# Altium schematic symbol library Logic.SCHLIB: 64 symbols
Pins are listed as number, name and electrical type; pins without a type are passive.

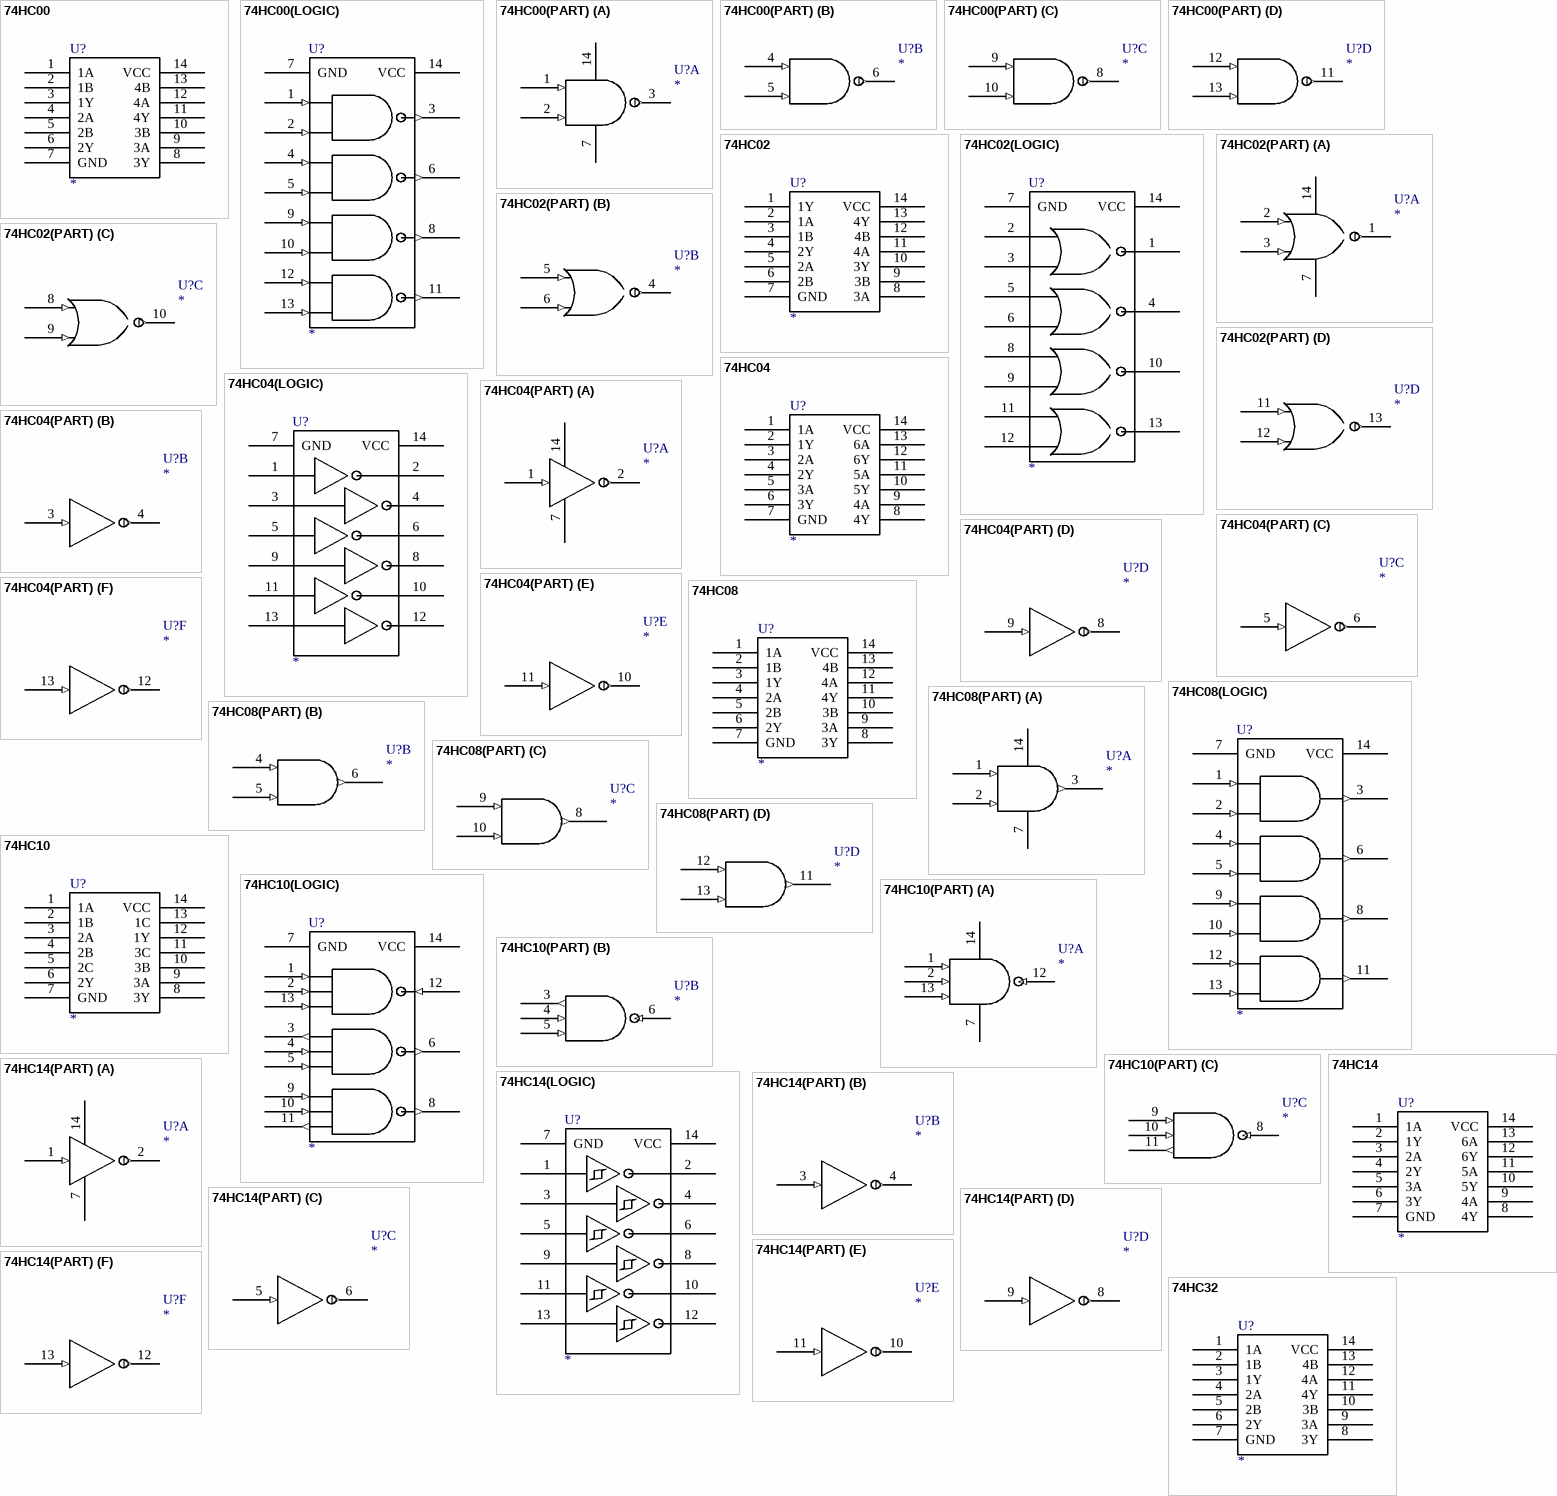
[diagram p0: symbols 74HC00 to 74HC32]

## 74HC00
designator U?
footprint SOP-14(3.9)
footprint DIP-14(300)
pins: 1 1A, 2 1B, 3 1Y, 4 2A, 5 2B, 6 2Y, 7 GND, 8 3Y, 9 3A, 10 3B, 11 4Y, 12 4A, 13 4B, 14 VCC

## 74HC00(LOGIC)
designator U?
footprint SOP-14(3.9)
footprint DIP-14(300)
pins: 1 1A (in), 2 1B (in), 3 1Y (out), 4 2A (in), 5 2B (in), 6 2Y (out), 7 GND, 8 3Y (out), 9 3A (in), 10 3B (in), 11 4Y (out), 12 4A (in), 13 4B (in), 14 VCC

## 74HC00(PART)
designator U?
footprint SOP-14(3.9)
footprint DIP-14(300)
part A pins: 1 A (in), 2 B (in), 3 Y (out), 7 GND, 14 VCC
part B pins: 4 A (in), 5 B (in), 6 Y (out)
part C pins: 8 Y (out), 9 A (in), 10 B (in)
part D pins: 11 Y (out), 12 A (in), 13 B (in)

## 74HC02
designator U?
footprint SOP-14(3.9)
footprint DIP-14(300)
pins: 1 1Y, 2 1A, 3 1B, 4 2Y, 5 2A, 6 2B, 7 GND, 8 3A, 9 3B, 10 3Y, 11 4A, 12 4B, 13 4Y, 14 VCC

## 74HC02(LOGIC)
designator U?
footprint SOP-14(3.9)
footprint DIP-14(300)
pins: 1 1Y, 2 1A, 3 1B, 4 2Y, 5 2A, 6 2B, 7 GND, 8 3A, 9 3B, 10 3Y, 11 4A, 12 4B, 13 4Y, 14 VCC

## 74HC02(PART)
designator U?
footprint SOP-14(3.9)
footprint DIP-14(300)
part A pins: 1 Y (out), 2 A (in), 3 B (in), 7 GND, 14 VCC
part B pins: 4 Y (out), 5 A (in), 6 B (in)
part C pins: 8 A (in), 9 B (in), 10 Y (out)
part D pins: 11 A (in), 12 B (in), 13 Y (out)

## 74HC04
designator U?
footprint SOP-14(3.9)
footprint DIP-14(300)
pins: 1 1A, 2 1Y, 3 2A, 4 2Y, 5 3A, 6 3Y, 7 GND, 8 4Y, 9 4A, 10 5Y, 11 5A, 12 6Y, 13 6A, 14 VCC

## 74HC04(LOGIC)
designator U?
footprint SOP-14(3.9)
footprint DIP-14(300)
pins: 1 1A, 2 1Y, 3 2A, 4 2Y, 5 3A, 6 3Y, 7 GND, 8 4Y, 9 4A, 10 5Y, 11 5A, 12 6Y, 13 6A, 14 VCC

## 74HC04(PART)
designator U?
footprint SOP-14(3.9)
footprint DIP-14(300)
part A pins: 1 A (in), 2 Y (out), 7 GND, 14 VCC
part B pins: 3 A (in), 4 Y (out)
part C pins: 5 A (in), 6 Y (out)
part D pins: 8 Y (out), 9 A (in)
part E pins: 10 Y (out), 11 A (in)
part F pins: 12 Y (out), 13 A (in)

## 74HC08
designator U?
footprint SOP-14(3.9)
footprint DIP-14(300)
pins: 1 1A, 2 1B, 3 1Y, 4 2A, 5 2B, 6 2Y, 7 GND, 8 3Y, 9 3A, 10 3B, 11 4Y, 12 4A, 13 4B, 14 VCC

## 74HC08(LOGIC)
designator U?
footprint SOP-14(3.9)
footprint DIP-14(300)
pins: 1 1A (in), 2 1B (in), 3 1Y (out), 4 2A (in), 5 2B (in), 6 2Y (out), 7 GND, 8 3Y (out), 9 3A (in), 10 3B (in), 11 4Y (out), 12 4A (in), 13 4B (in), 14 VCC

## 74HC08(PART)
designator U?
footprint SOP-14(3.9)
footprint DIP-14(300)
part A pins: 1 A (in), 2 B (in), 3 Y (out), 7 GND, 14 VCC
part B pins: 4 A (in), 5 B (in), 6 Y (out)
part C pins: 8 Y (out), 9 A (in), 10 B (in)
part D pins: 11 Y (out), 12 A (in), 13 B (in)

## 74HC10
designator U?
footprint SOP-14(3.9)
footprint DIP-14(300)
pins: 1 1A, 2 1B, 3 2A, 4 2B, 5 2C, 6 2Y, 7 GND, 8 3Y, 9 3A, 10 3B, 11 3C, 12 1Y, 13 1C, 14 VCC

## 74HC10(LOGIC)
designator U?
footprint SOP-14(3.9)
footprint DIP-14(300)
pins: 1 1A (in), 2 1B (in), 3 2A (out), 4 2B (in), 5 2C (in), 6 2Y (out), 7 GND, 8 3Y (out), 9 3A (in), 10 3B (in), 11 3C (out), 12 1Y (in), 13 1C (in), 14 VCC

## 74HC10(PART)
designator U?
footprint SOP-14(3.9)
footprint DIP-14(300)
part A pins: 1 1A (in), 2 1B (in), 7 GND, 12 1Y (in), 13 1C (in), 14 VCC
part B pins: 3 2A (out), 4 2B (in), 5 2C (in), 6 1Y (in)
part C pins: 8 1Y (in), 9 3A (in), 10 3B (in), 11 3C (out)

## 74HC14
designator U?
footprint SOP-14(3.9)
footprint DIP-14(300)
pins: 1 1A, 2 1Y, 3 2A, 4 2Y, 5 3A, 6 3Y, 7 GND, 8 4Y, 9 4A, 10 5Y, 11 5A, 12 6Y, 13 6A, 14 VCC

## 74HC14(LOGIC)
designator U?
footprint SOP-14(3.9)
footprint DIP-14(300)
pins: 1 1A, 2 1Y, 3 2A, 4 2Y, 5 3A, 6 3Y, 7 GND, 8 4Y, 9 4A, 10 5Y, 11 5A, 12 6Y, 13 6A, 14 VCC

## 74HC14(PART)
designator U?
footprint SOP-14(3.9)
footprint DIP-14(300)
part A pins: 1 A (in), 2 Y (out), 7 GND, 14 Vcc
part B pins: 3 A (in), 4 Y (out)
part C pins: 5 A (in), 6 Y (out)
part D pins: 8 Y (out), 9 A (in)
part E pins: 10 Y (out), 11 A (in)
part F pins: 12 Y (out), 13 A (in)

## 74HC32
designator U?
footprint SOP-14(3.9)
footprint DIP-14(300)
pins: 1 1A, 2 1B, 3 1Y, 4 2A, 5 2B, 6 2Y, 7 GND, 8 3Y, 9 3A, 10 3B, 11 4Y, 12 4A, 13 4B, 14 VCC

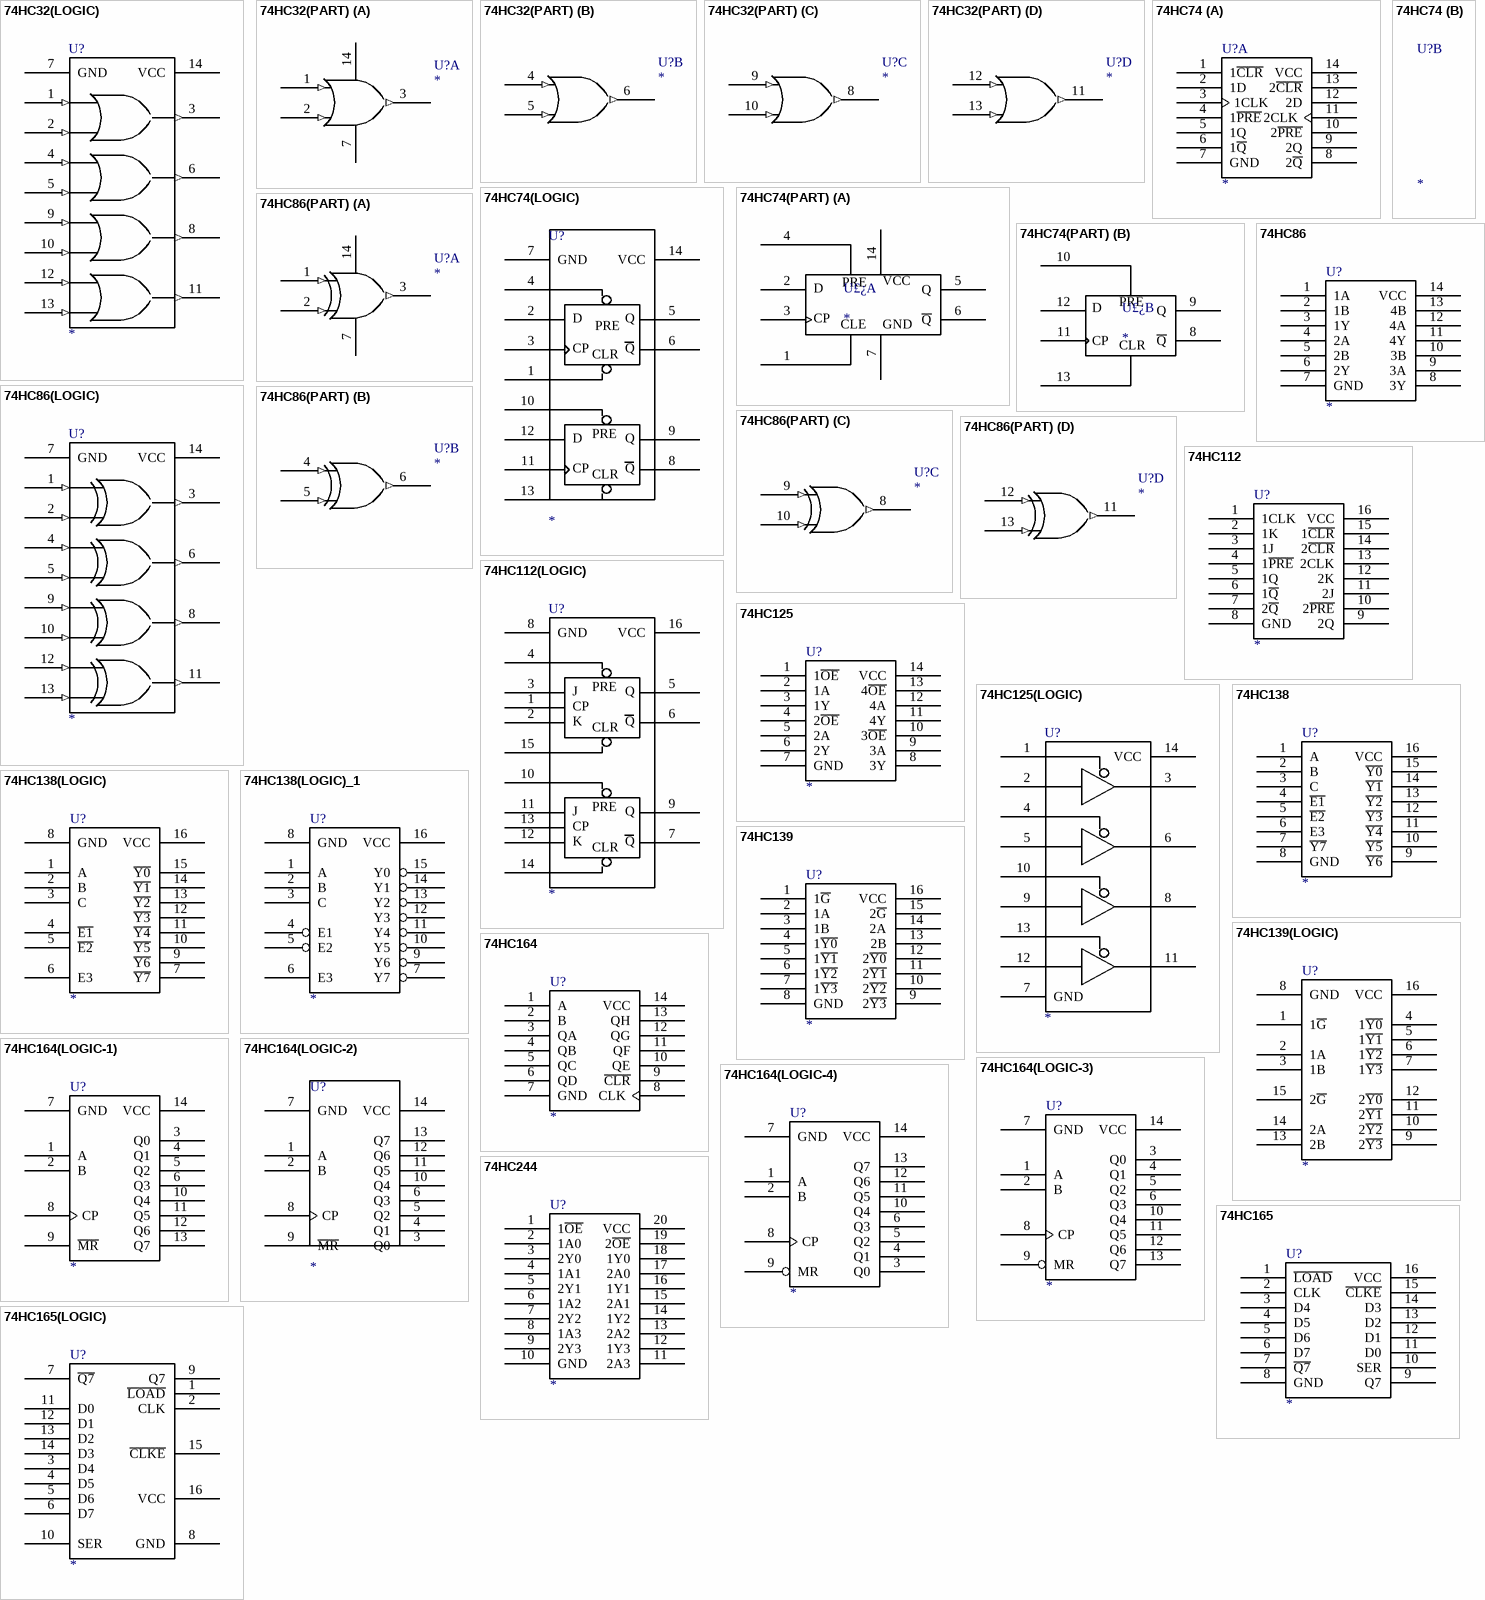
[diagram p1: symbols 74HC32(LOGIC) to 74HC244]

## 74HC32(LOGIC)
designator U?
footprint SOP-14(3.9)
footprint DIP-14(300)
pins: 1 1A (in), 2 1B (in), 3 1Y (out), 4 2A (in), 5 2B (in), 6 2Y (out), 7 GND, 8 3Y (out), 9 3A (in), 10 3B (in), 11 4Y (out), 12 4A (in), 13 4B (in), 14 VCC

## 74HC32(PART)
designator U?
footprint SOP-14(3.9)
footprint DIP-14(300)
part A pins: 1 A (in), 2 B (in), 3 Y (out), 7 GND, 14 Vcc
part B pins: 4 A (in), 5 B (in), 6 Y (out)
part C pins: 8 Y (out), 9 A (in), 10 B (in)
part D pins: 11 Y (out), 12 A (in), 13 B (in)

## 74HC74
designator U?
footprint SOP-14(3.9)
footprint DIP-14(300)
part A pins: 1 1~{CLR}, 2 1D, 3 1CLK, 4 1~{PRE}, 5 1Q, 6 1~{Q}, 7 GND, 8 2~{Q}, 9 2Q, 10 2~{PRE}, 11 2CLK, 12 2D, 13 2~{CLR}, 14 VCC

## 74HC74(LOGIC)
designator U?
footprint SOP-14(3.9)
footprint DIP-14(300)
pins: 1 1~{CLR}, 2 1D, 3 1CLK, 4 1~{PRE}, 5 1Q, 6 1~{Q}, 7 GND, 8 2~{Q}, 9 2Q, 10 2~{PRE}, 11 2CLK, 12 2D, 13 2~{CLR}, 14 VCC
text: D; Q; PRE; CP; CLR

## 74HC74(PART)
designator U£¿
footprint DIP-14(300)
footprint SOP-14(3.9)
part A pins: 1 1~{CLR}, 2 1D, 3 1CLK, 4 1~{PRE}, 5 Q, 6 ~{Q}, 7 GND, 14 VCC
part B pins: 8 ~{Q}, 9 Q, 10 2~{PRE}, 11 2CLK, 12 2D, 13 2~{CLR}
part A text: PRE; D; CP; CLE
part B text: PRE; D; CP; CLR

## 74HC86
designator U?
footprint SOP-14(3.9)
footprint DIP-14(300)
pins: 1 1A, 2 1B, 3 1Y, 4 2A, 5 2B, 6 2Y, 7 GND, 8 3Y, 9 3A, 10 3B, 11 4Y, 12 4A, 13 4B, 14 VCC

## 74HC86(LOGIC)
designator U?
footprint SOP-14(3.9)
footprint DIP-14(300)
pins: 1 1A (in), 2 1B (in), 3 1Y (out), 4 2A (in), 5 2B (in), 6 2Y (out), 7 GND, 8 3Y (out), 9 3A (in), 10 3B (in), 11 4Y (out), 12 4A (in), 13 4B (in), 14 VCC

## 74HC86(PART)
designator U?
footprint SOP-14(3.9)
footprint DIP-14(300)
part A pins: 1 A (in), 2 B (in), 3 Y (out), 7 GND, 14 Vcc
part B pins: 4 A (in), 5 B (in), 6 Y (out)
part C pins: 8 Y (out), 9 A (in), 10 B (in)
part D pins: 11 Y (out), 12 A (in), 13 B (in)

## 74HC112
designator U?
footprint SOP-16(3.9)
footprint DIP-16(300)
pins: 1 1CLK, 2 1K, 3 1J, 4 1~{PRE}, 5 1Q, 6 1~{Q}, 7 2~{Q}, 8 GND, 9 2Q, 10 2~{PRE}, 11 2J, 12 2K, 13 2CLK, 14 2~{CLR}, 15 1~{CLR}, 16 VCC

## 74HC112(LOGIC)
designator U?
footprint SOP-16(3.9)
footprint DIP-16(300)
pins: 1, 2 1CLK, 3 1D, 4 1~{PRE}, 5 1Q, 6 1~{Q}, 7 2~{Q}, 8 GND, 9 2Q, 10 2~{PRE}, 11 2D, 12 2CLK, 13, 14 2~{CLR}, 15 1~{CLR}, 16 VCC
text: PRE; J; Q; CP; K; CLR

## 74HC125
designator U?
footprint SOP-14(3.9)
footprint DIP-14(300)
pins: 1 1~{OE}, 2 1A, 3 1Y, 4 2~{OE}, 5 2A, 6 2Y, 7 GND, 8 3Y, 9 3A, 10 3~{OE}, 11 4Y, 12 4A, 13 4~{OE}, 14 VCC

## 74HC125(LOGIC)
designator U?
footprint SOP-14(3.9)
footprint DIP-14(300)
pins: 1 1~{OE}, 2 1A, 3 1Y, 4 2~{OE}, 5 2A, 6 2Y, 7 GND, 8 3Y, 9 3A, 10 3~{OE}, 11 4Y, 12 4A, 13 4~{OE}, 14 VCC

## 74HC138
designator U?
footprint SOP-16(3.9)
footprint DIP-16(300)
pins: 1 A, 2 B, 3 C, 4 ~{E1}, 5 ~{E2}, 6 E3, 7 ~{Y7}, 8 GND, 9 ~{Y6}, 10 ~{Y5}, 11 ~{Y4}, 12 ~{Y3}, 13 ~{Y2}, 14 ~{Y1}, 15 ~{Y0}, 16 VCC

## 74HC138(LOGIC)
designator U?
footprint SOP-16(3.9)
footprint DIP-16(300)
pins: 1 A, 2 B, 3 C, 4 ~{E1}, 5 ~{E2}, 6 E3, 7 ~{Y7}, 8 GND, 9 ~{Y6}, 10 ~{Y5}, 11 ~{Y4}, 12 ~{Y3}, 13 ~{Y2}, 14 ~{Y1}, 15 ~{Y0}, 16 VCC

## 74HC138(LOGIC)_1
designator U?
footprint SOP-16(3.9)
footprint DIP-16(300)
pins: 1 A, 2 B, 3 C, 4 E1, 5 E2, 6 E3, 7 Y7, 8 GND, 9 Y6, 10 Y5, 11 Y4, 12 Y3, 13 Y2, 14 Y1, 15 Y0, 16 VCC

## 74HC139
designator U?
footprint SOP-16(3.9)
footprint DIP-16(300)
pins: 1 1~{G}, 2 1A, 3 1B, 4 1~{Y0}, 5 1~{Y1}, 6 1~{Y2}, 7 1~{Y3}, 8 GND, 9 2~{Y3}, 10 2~{Y2}, 11 2~{Y1}, 12 2~{Y0}, 13 2B, 14 2A, 15 2~{G}, 16 VCC

## 74HC139(LOGIC)
designator U?
footprint SOP-16(3.9)
footprint DIP-16(300)
pins: 1 1~{G}, 2 1A, 3 1B, 4 1~{Y0}, 5 1~{Y1}, 6 1~{Y2}, 7 1~{Y3}, 8 GND, 9 2~{Y3}, 10 2~{Y2}, 11 2~{Y1}, 12 2~{Y0}, 13 2B, 14 2A, 15 2~{G}, 16 VCC

## 74HC164
designator U?
footprint SOP-14(3.9)
footprint DIP-14(300)
pins: 1 A, 2 B, 3 QA, 4 QB, 5 QC, 6 QD, 7 GND, 8 CLK, 9 ~{CLR}, 10 QE, 11 QF, 12 QG, 13 QH, 14 VCC

## 74HC164(LOGIC-1)
designator U?
footprint SOP-14(3.9)
footprint DIP-14(300)
pins: 1 A, 2 B, 3 Q0, 4 Q1, 5 Q2, 6 Q3, 7 GND, 8 CP, 9 ~{MR}, 10 Q4, 11 Q5, 12 Q6, 13 Q7, 14 VCC

## 74HC164(LOGIC-2)
designator U?
footprint SOP-14(3.9)
footprint DIP-14(300)
pins: 1 A, 2 B, 3 Q0, 4 Q1, 5 Q2, 6 Q3, 7 GND, 8 CP, 9 ~{MR}, 10 Q4, 11 Q5, 12 Q6, 13 Q7, 14 VCC

## 74HC164(LOGIC-3)
designator U?
footprint SOP-14(3.9)
footprint DIP-14(300)
pins: 1 A, 2 B, 3 Q0, 4 Q1, 5 Q2, 6 Q3, 7 GND, 8 CP, 9 MR, 10 Q4, 11 Q5, 12 Q6, 13 Q7, 14 VCC

## 74HC164(LOGIC-4)
designator U?
footprint SOP-14(3.9)
footprint DIP-14(300)
pins: 1 A, 2 B, 3 Q0, 4 Q1, 5 Q2, 6 Q3, 7 GND, 8 CP, 9 MR, 10 Q4, 11 Q5, 12 Q6, 13 Q7, 14 VCC

## 74HC165
designator U?
footprint SOP-16(3.9)
footprint DIP-16(300)
pins: 1 ~{LOAD}, 2 CLK, 3 D4, 4 D5, 5 D6, 6 D7, 7 ~{Q7}, 8 GND, 9 Q7, 10 SER, 11 D0, 12 D1, 13 D2, 14 D3, 15 ~{CLKE}, 16 VCC

## 74HC165(LOGIC)
designator U?
footprint SOP-16(3.9)
footprint DIP-16(300)
pins: 1 ~{LOAD}, 2 CLK, 3 D4, 4 D5, 5 D6, 6 D7, 7 ~{Q7}, 8 GND, 9 Q7, 10 SER, 11 D0, 12 D1, 13 D2, 14 D3, 15 ~{CLKE}, 16 VCC

## 74HC244
designator U?
footprint SOP-20(5.3)
footprint DIP-20(300)
pins: 1 1~{OE}, 2 1A0, 3 2Y0, 4 1A1, 5 2Y1, 6 1A2, 7 2Y2, 8 1A3, 9 2Y3, 10 GND, 11 2A3, 12 1Y3, 13 2A2, 14 1Y2, 15 2A1, 16 1Y1, 17 2A0, 18 1Y0, 19 2~{OE}, 20 VCC

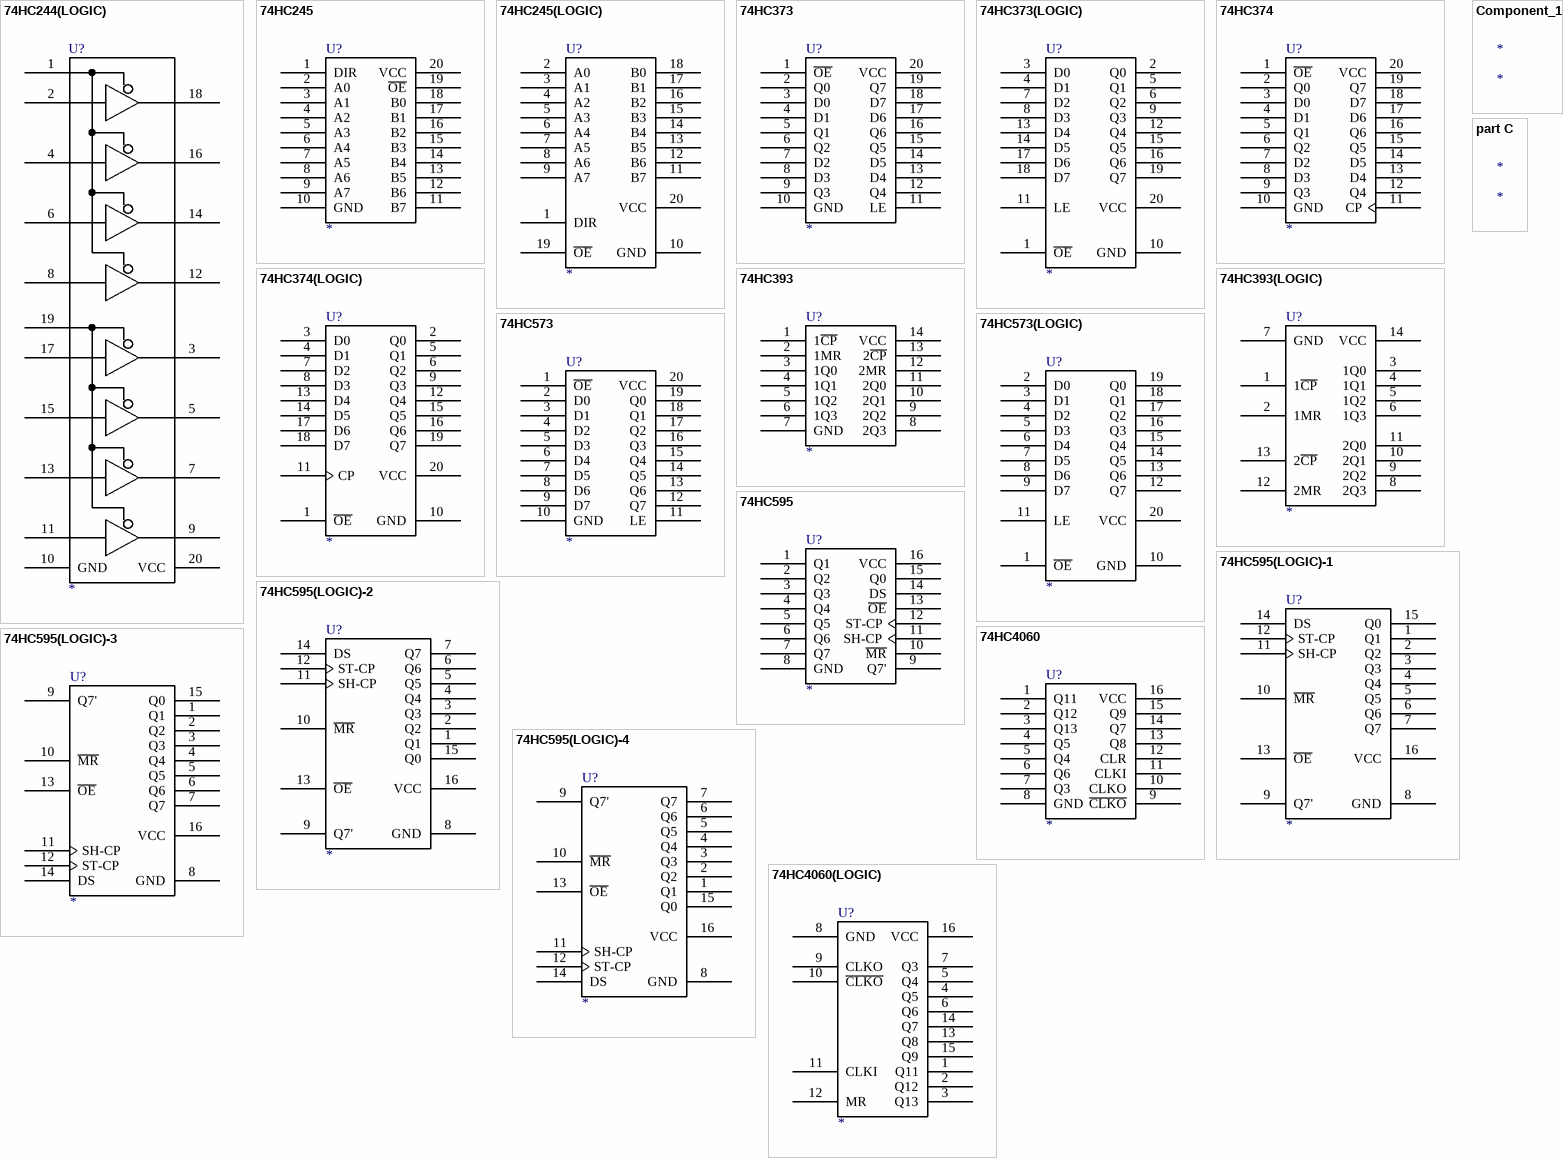
[diagram p2: symbols 74HC244(LOGIC) to part C]

## 74HC244(LOGIC)
designator U?
footprint SOP-20(5.3)
footprint DIP-20(300)
pins: 1 1~{OE}, 2 1A0, 3 2Y0, 4 1A1, 5 2Y1, 6 1A2, 7 2Y2, 8 1A3, 9 2Y3, 10 GND, 11 2A3, 12 1Y3, 13 2A2, 14 1Y2, 15 2A1, 16 1Y1, 17 2A0, 18 1Y0, 19 2~{OE}, 20 VCC

## 74HC245
designator U?
footprint SOP-20(5.3)
footprint DIP-20(300)
pins: 1 DIR, 2 A0, 3 A1, 4 A2, 5 A3, 6 A4, 7 A5, 8 A6, 9 A7, 10 GND, 11 B7, 12 B6, 13 B5, 14 B4, 15 B3, 16 B2, 17 B1, 18 B0, 19 ~{OE}, 20 VCC

## 74HC245(LOGIC)
designator U?
footprint SOP-20(5.3)
footprint DIP-20(300)
pins: 1 DIR, 2 A0, 3 A1, 4 A2, 5 A3, 6 A4, 7 A5, 8 A6, 9 A7, 10 GND, 11 B7, 12 B6, 13 B5, 14 B4, 15 B3, 16 B2, 17 B1, 18 B0, 19 ~{OE}, 20 VCC

## 74HC373
designator U?
footprint SOP-20(5.3)
footprint DIP-20(300)
pins: 1 ~{OE}, 2 Q0, 3 D0, 4 D1, 5 Q1, 6 Q2, 7 D2, 8 D3, 9 Q3, 10 GND, 11 LE, 12 Q4, 13 D4, 14 D5, 15 Q5, 16 Q6, 17 D6, 18 D7, 19 Q7, 20 VCC

## 74HC373(LOGIC)
designator U?
footprint SOP-20(5.3)
footprint DIP-20(300)
pins: 1 ~{OE}, 2 Q0, 3 D0, 4 D1, 5 Q1, 6 Q2, 7 D2, 8 D3, 9 Q3, 10 GND, 11 LE, 12 Q4, 13 D4, 14 D5, 15 Q5, 16 Q6, 17 D6, 18 D7, 19 Q7, 20 VCC

## 74HC374
designator U?
Octal D-type flip-flop; positive edge-trigger; 3-state
footprint SOP-20(5.3)
footprint DIP-20(300)
pins: 1 ~{OE}, 2 Q0, 3 D0, 4 D1, 5 Q1, 6 Q2, 7 D2, 8 D3, 9 Q3, 10 GND, 11 CP, 12 Q4, 13 D4, 14 D5, 15 Q5, 16 Q6, 17 D6, 18 D7, 19 Q7, 20 VCC

## 74HC374(LOGIC)
designator U?
Octal D-type flip-flop; positive edge-trigger; 3-state
footprint SOP-20(5.3)
footprint DIP-20(300)
pins: 1 ~{OE}, 2 Q0, 3 D0, 4 D1, 5 Q1, 6 Q2, 7 D2, 8 D3, 9 Q3, 10 GND, 11 CP, 12 Q4, 13 D4, 14 D5, 15 Q5, 16 Q6, 17 D6, 18 D7, 19 Q7, 20 VCC

## 74HC393
designator U?
footprint SOP-14(3.9)
footprint DIP-14(300)
pins: 1 1~{CP}, 2 1MR, 3 1Q0, 4 1Q1, 5 1Q2, 6 1Q3, 7 GND, 8 2Q3, 9 2Q2, 10 2Q1, 11 2Q0, 12 2MR, 13 2~{CP}, 14 VCC

## 74HC393(LOGIC)
designator U?
footprint SOP-14(3.9)
footprint DIP-14(300)
pins: 1 1~{CP}, 2 1MR, 3 1Q0, 4 1Q1, 5 1Q2, 6 1Q3, 7 GND, 8 2Q3, 9 2Q2, 10 2Q1, 11 2Q0, 12 2MR, 13 2~{CP}, 14 VCC

## 74HC573
designator U?
footprint SOP-20(5.3)
footprint DIP-20(300)
pins: 1 ~{OE}, 2 D0, 3 D1, 4 D2, 5 D3, 6 D4, 7 D5, 8 D6, 9 D7, 10 GND, 11 LE, 12 Q7, 13 Q6, 14 Q5, 15 Q4, 16 Q3, 17 Q2, 18 Q1, 19 Q0, 20 VCC

## 74HC573(LOGIC)
designator U?
footprint SOP-20(5.3)
footprint DIP-20(300)
pins: 1 ~{OE}, 2 D0, 3 D1, 4 D2, 5 D3, 6 D4, 7 D5, 8 D6, 9 D7, 10 GND, 11 LE, 12 Q7, 13 Q6, 14 Q5, 15 Q4, 16 Q3, 17 Q2, 18 Q1, 19 Q0, 20 VCC

## 74HC595
designator U?
footprint SOP-16(3.9)
footprint DIP-16(300)
pins: 1 Q1, 2 Q2, 3 Q3, 4 Q4, 5 Q5, 6 Q6, 7 Q7, 8 GND, 9 Q7', 10 ~{MR}, 11 SH-CP, 12 ST-CP, 13 ~{OE}, 14 DS, 15 Q0, 16 VCC

## 74HC595(LOGIC)-1
designator U?
footprint SOP-16(3.9)
footprint DIP-16(300)
pins: 1 Q1, 2 Q2, 3 Q3, 4 Q4, 5 Q5, 6 Q6, 7 Q7, 8 GND, 9 Q7', 10 ~{MR}, 11 SH-CP, 12 ST-CP, 13 ~{OE}, 14 DS, 15 Q0, 16 VCC

## 74HC595(LOGIC)-2
designator U?
footprint SOP-16(3.9)
footprint DIP-16(300)
pins: 1 Q1, 2 Q2, 3 Q3, 4 Q4, 5 Q5, 6 Q6, 7 Q7, 8 GND, 9 Q7', 10 ~{MR}, 11 SH-CP, 12 ST-CP, 13 ~{OE}, 14 DS, 15 Q0, 16 VCC

## 74HC595(LOGIC)-3
designator U?
footprint SOP-16(3.9)
footprint DIP-16(300)
pins: 1 Q1, 2 Q2, 3 Q3, 4 Q4, 5 Q5, 6 Q6, 7 Q7, 8 GND, 9 Q7', 10 ~{MR}, 11 SH-CP, 12 ST-CP, 13 ~{OE}, 14 DS, 15 Q0, 16 VCC

## 74HC595(LOGIC)-4
designator U?
footprint SOP-16(3.9)
footprint DIP-16(300)
pins: 1 Q1, 2 Q2, 3 Q3, 4 Q4, 5 Q5, 6 Q6, 7 Q7, 8 GND, 9 Q7', 10 ~{MR}, 11 SH-CP, 12 ST-CP, 13 ~{OE}, 14 DS, 15 Q0, 16 VCC

## 74HC4060
designator U?
footprint SOP-16(3.9)
footprint DIP-16(300)
pins: 1 Q11, 2 Q12, 3 Q13, 4 Q5, 5 Q4, 6 Q6, 7 Q3, 8 GND, 9 ~{CLKO}, 10 CLKO, 11 CLKI, 12 CLR, 13 Q8, 14 Q7, 15 Q9, 16 VCC

## 74HC4060(LOGIC)
designator U?
footprint SOP-16(3.9)
footprint DIP-16(300)
pins: 1 Q11, 2 Q12, 3 Q13, 4 Q5, 5 Q4, 6 Q6, 7 Q3, 8 GND, 9 CLKO, 10 ~{CLKO}, 11 CLKI, 12 MR, 13 Q8, 14 Q7, 15 Q9, 16 VCC

## Component_1
designator *

## part C
designator *